# EAGLE library part TXB0108PWR (library RoboJackets-ICs)
Voltage Level Translator Bidirectional 1 Circuit 8 Channel 100Mbps 20-TSSOP Datasheet <https://www.ti.com/lit/ds/symlink/txb0108.pdf?HQS=TI-null-null-digikeymode-df-pf-null-wwe&ts=1602698402607>
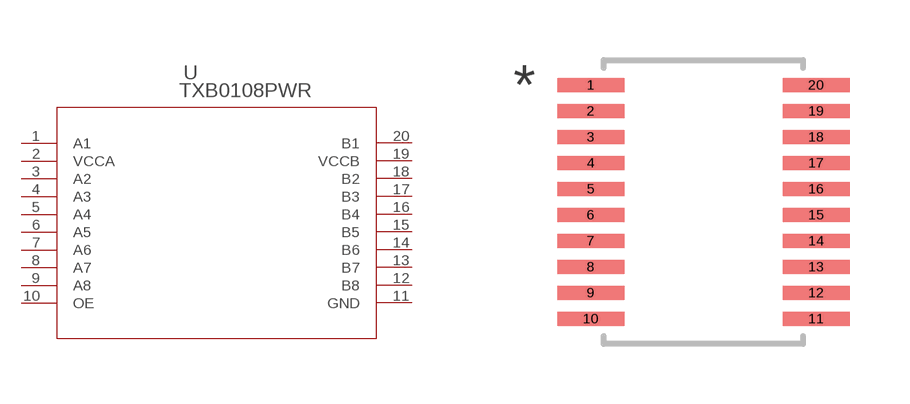
[diagram p25: symbol with the pads of PW20; footprint PW20]

Designator prefix U

## TXB0108PWR (DKPN: 296-21527-1-ND)  [PW20]
1  A1
2  VCCA  pwr
3  A2
4  A3
5  A4
6  A5
7  A6
8  A7
9  A8
10  OE  out
11  GND  pwr
12  B8
13  B7
14  B6
15  B5
16  B4
17  B3
18  B2
19  VCCB  pwr
20  B1

## Footprint PW20 (pad centres in mm)
smd 1.676 x 0.356: 1 -2.819,2.925; 2 -2.819,2.275; 3 -2.819,1.625; 4 -2.819,0.975; 5 -2.819,0.325; 6 -2.819,-0.325; 7 -2.819,-0.975; 8 -2.819,-1.625; 9 -2.819,-2.275; 10 -2.819,-2.925; 11 2.819,-2.925; 12 2.819,-2.275; 13 2.819,-1.625; 14 2.819,-0.975; 15 2.819,-0.325; 16 2.819,0.325; 17 2.819,0.975; 18 2.819,1.625; 19 2.819,2.275; 20 2.819,2.925